# Altium schematic symbol library DG409.SchLib: 1 symbol
Pins are listed as number, name and electrical type; pins without a type are passive.

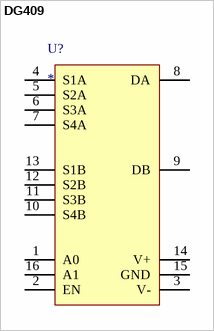
[diagram p0: symbol DG409]

## DG409
designator U?
Single 8-Channel/Differential 4-Channel, CMOS Analog Multiplexers
footprint DG409DY (SOIC, 16-Leads, Body 9.90x3.90mm, Pitch 1.27mm, IPC Medium Density)
pins: 1 A0 (power), 2 EN (power), 3 V- (power), 4 S1A (power), 5 S2A (power), 6 S3A (power), 7 S4A (power), 8 DA (power), 9 DB (power), 10 S4B (power), 11 S3B (power), 12 S2B (power), 13 S1B (power), 14 V+ (power), 15 GND (power), 16 A1 (power)